# Altium schematic symbol library HDMI.SchLib: 1 symbol
Pins are listed as number, name and electrical type; pins without a type are passive.

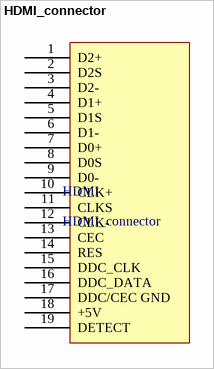
[diagram p0: symbol HDMI_connector]

## HDMI_connector
designator HDMI
footprint HDMI-type-A
pins: 1 D2+, 2 D2S, 3 D2-, 4 D1+, 5 D1S, 6 D1-, 7 D0+, 8 D0S, 9 D0-, 10 CLK+, 11 CLKS, 12 CLK-, 13 CEC, 14 RES, 15 DDC_CLK, 16 DDC_DATA, 17 DDC/CEC GND, 18 +5V, 19 DETECT